# Altium footprint library SO-4.PcbLib: 1 footprints
Each footprint in its own frame and in the unit in brackets; x right, y up, seen from the top. Pads: shape width x height; smd on the part's side, far side on the other; paste and mask are expansions set on the pad; w line width, h text height; cw(c..) or ccw(c..) is an arc to the next point about the centre after c.
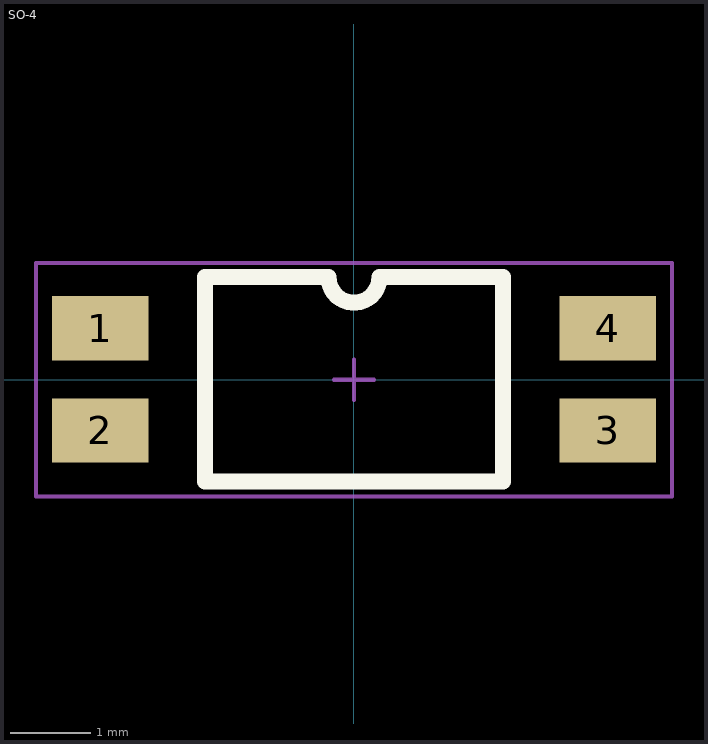
[diagram p0: the footprint, top view; thin cyan lines are the x and y axes]

## SO-4 [mm] "4-Pin SOIC"
pads (4):
  rect 1.2x0.8 smd: 1(-3.15,0.64) 2(-3.15,-0.63) 3(3.15,-0.63) 4(3.15,0.64)
Top Overlay:
  lines w0.2: -1.85,-1.265 -1.85,1.275 -0.318,1.275 ccw(c0,1.275) 0.318,1.275 1.85,1.275 1.85,-1.265 -1.85,-1.265
Mechanical 15:
  lines w0.05: -0.25,0 0.25,0 ; 0,-0.25 0,0.25 ; -3.95,-1.45 -3.95,1.45 3.95,1.45 3.95,-1.45 -3.95,-1.45